# Altium schematic symbol library SCH - RF - SWITCH - SKYWORKS SKY13350-385LF.SCHLIB: 1 symbol
Pins are listed as number, name and electrical type; pins without a type are passive.

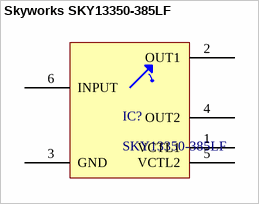
[diagram p0: symbol Skyworks SKY13350-385LF]

## Skyworks SKY13350-385LF
designator IC?, comment SKY13350-385LF
0.01-6.0 GHz GaAs SPDT Switch
pins: 1 VCTL1, 2 OUT1, 3 GND, 4 OUT2, 5 VCTL2, 6 INPUT